# EAGLE library part K66F_J1 (library Carroll's Parts)
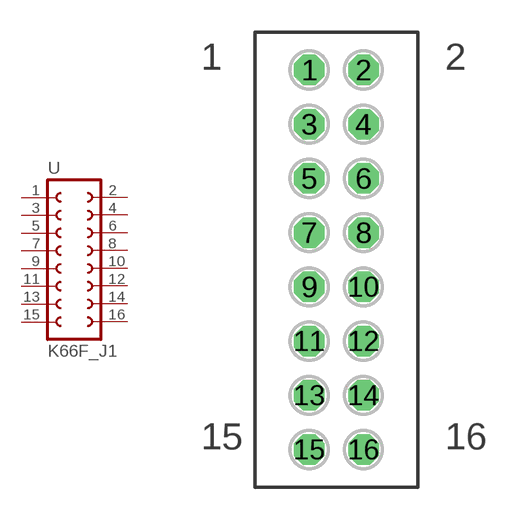
[diagram p5: symbol with the pads of K66F_IO_2X8; footprint K66F_IO_2X8]

Designator prefix -

## K66F_J1  [K66F_IO_2X8]
1  1
2  2
3  3
4  4
5  5
6  6
7  7
8  8
9  9
10  10
11  11
12  12
13  13
14  14
15  15
16  16

## Footprint K66F_IO_2X8 (pad centres in mm)
FEMALE HEADER
drill 0.914 octagon: 1 -1.27,8.89; 2 1.27,8.89; 3 -1.27,6.35; 4 1.27,6.35; 5 -1.27,3.81; 6 1.27,3.81; 7 -1.27,1.27; 8 1.27,1.27; 9 -1.27,-1.27; 10 1.27,-1.27; 11 -1.27,-3.81; 12 1.27,-3.81; 13 -1.27,-6.35; 14 1.27,-6.35; 15 -1.27,-8.89; 16 1.27,-8.89